# Altium schematic symbol library ESP12.SchLib: 1 symbol
Pins are listed as number, name and electrical type; pins without a type are passive.

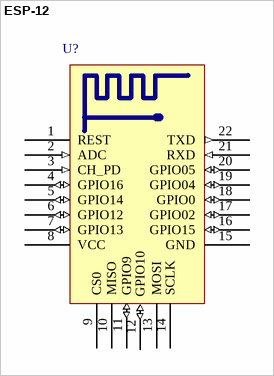
[diagram p0: symbol ESP-12]

## ESP-12
designator U?  (value not drawn)
footprint ESP12 (Footprint not found)
pins: 1 REST, 2 ADC (in), 3 CH_PD (in), 4 GPIO16 (io), 5 GPIO14 (io), 6 GPIO12 (io), 7 GPIO13 (io), 8 VCC (power), 9 CS0 (power), 10 MISO (power), 11 GPIO9 (io), 12 GPIO10 (io), 13 MOSI (power), 14 SCLK (power), 15 GND (power), 16 GPIO15 (io), 17 GPIO02 (io), 18 GPIO0 (io), 19 GPIO04 (io), 20 GPIO05 (io), 21 RXD (in), 22 TXD (out)